# Altium schematic symbol library Alatyr-Schlib.SchLib: 33 symbols
Pins are listed as number, name and electrical type; pins without a type are passive.

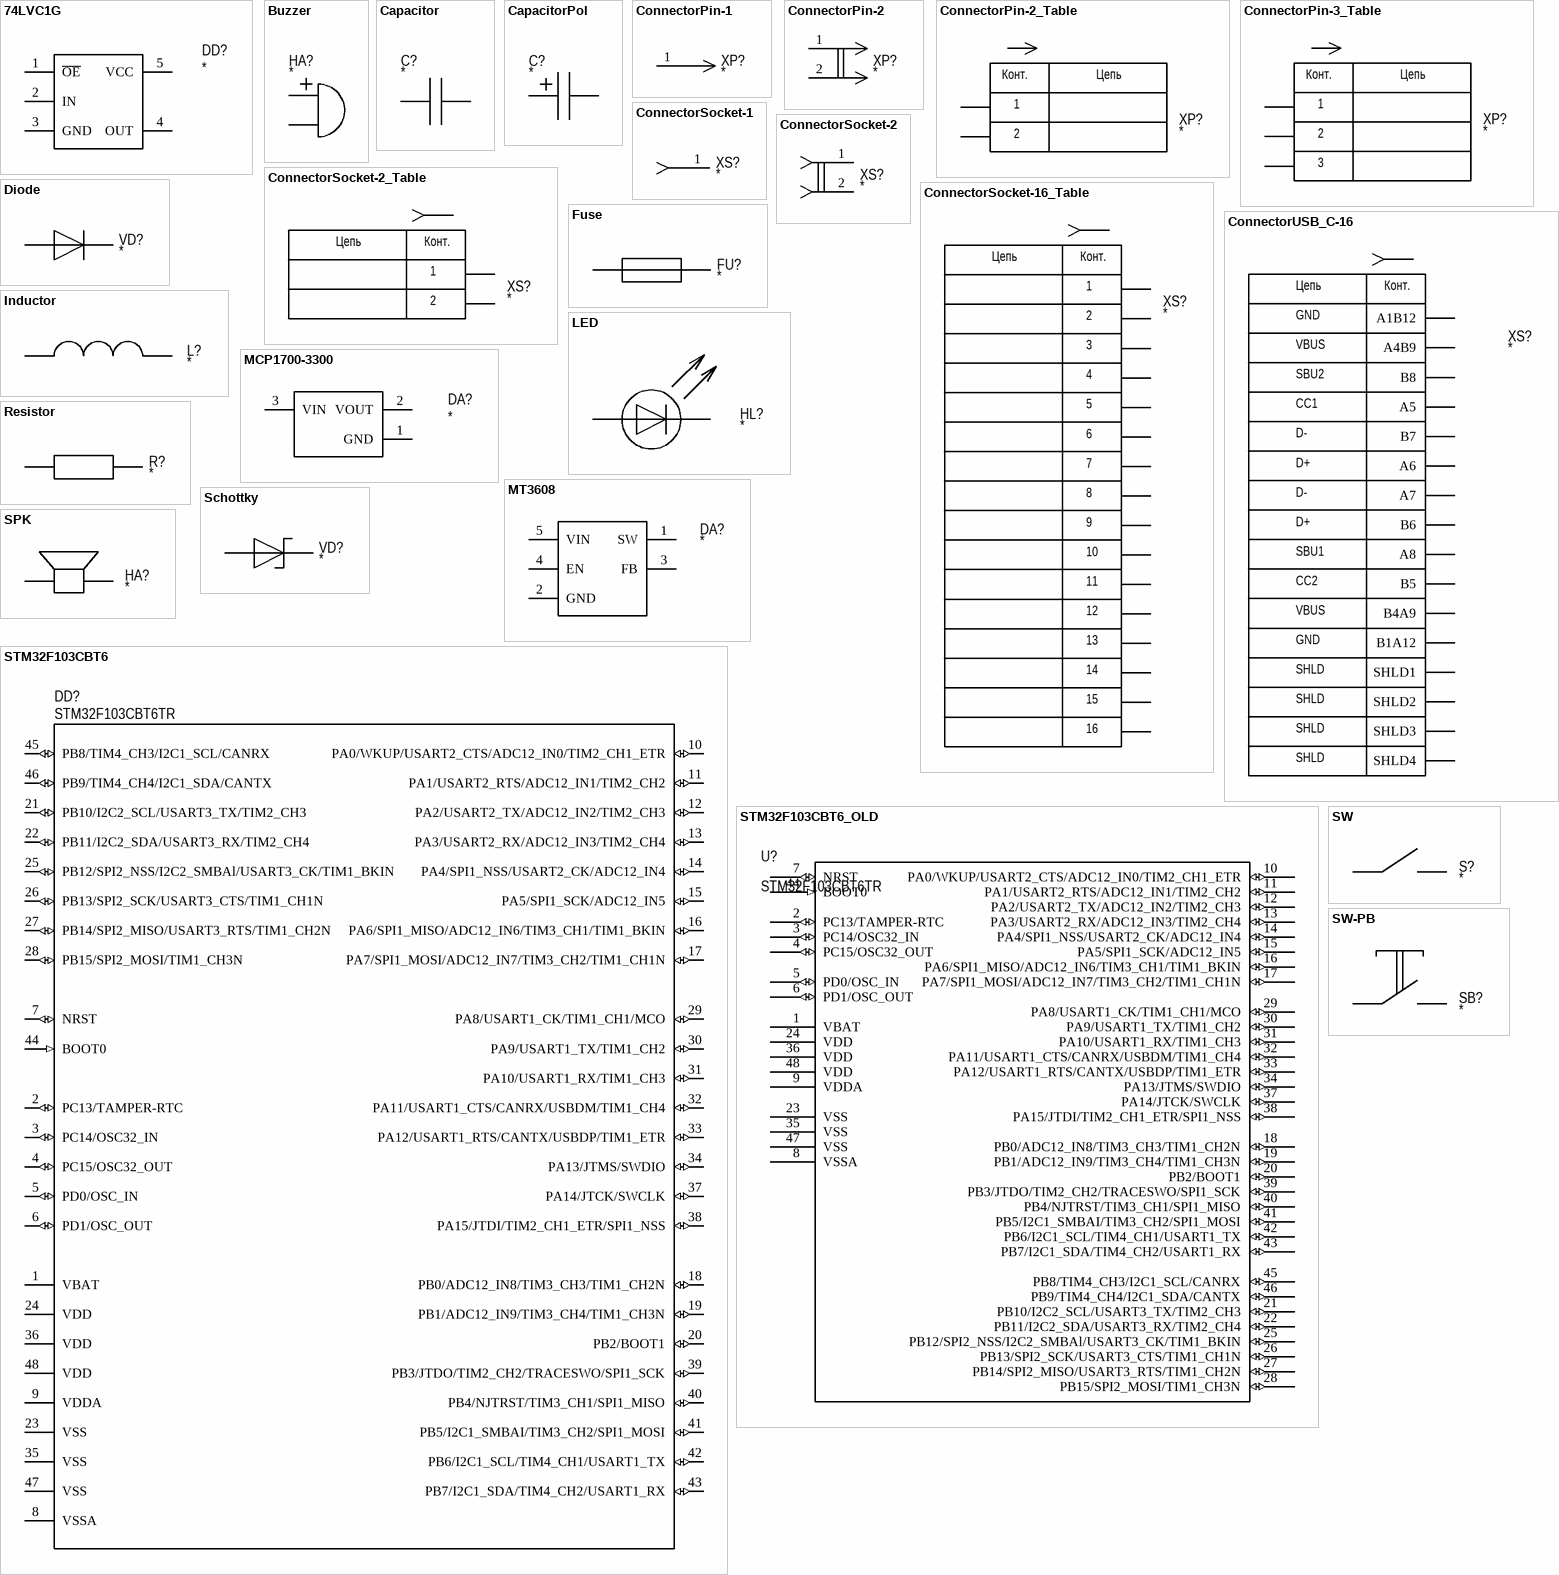
[diagram p0: symbols 74LVC1G to SW-PB]

## 74LVC1G
designator DD?
pins: 1 ~{OE} (power), 2 IN (power), 3 GND (power), 4 OUT (power), 5 VCC (power)

## Buzzer
designator HA?
pins: 1, 2

## Capacitor
designator C?
pins: 1, 2

## CapacitorPol
designator C?
pins: 1, 2

## ConnectorPin-1
designator XP?
pins: 1

## ConnectorPin-2
designator XP?
pins: 1, 2
2 alternate drawings of the same symbol

## ConnectorPin-2_Table
designator XP?
pins: 1, 2
2 alternate drawings of the same symbol
text: Конт.; Цепь

## ConnectorPin-3_Table
designator XP?
pins: 1, 2, 3
2 alternate drawings of the same symbol
text: Конт.; Цепь

## ConnectorSocket-1
designator XS?
pins: 1
2 alternate drawings of the same symbol

## ConnectorSocket-2
designator XS?
pins: 1, 2
2 alternate drawings of the same symbol

## ConnectorSocket-2_Table
designator XS?
pins: 1, 2
2 alternate drawings of the same symbol
text: Цепь; Конт.

## ConnectorSocket-16_Table
designator XS?
pins: 1, 2, 3, 4, 5, 6 62, 7, 8, 9, 10, 11, 12, 13, 14, 15, 16
2 alternate drawings of the same symbol
text: Цепь; Конт.

## ConnectorUSB_C-16
designator XS?
pins: A1B12 (power), A4B9 (power), A5, A6, A7, A8, B1A12 (power), B4A9 (power), B5, B6, B7, B8, SHLD1, SHLD2, SHLD3, SHLD4
2 alternate drawings of the same symbol
text: Цепь; Конт.; GND; VBUS; SBU2; CC1; D-; D+; SBU1; CC2; SHLD

## Diode
designator VD?
pins: 1 A, 2 C

## Fuse
designator FU?
pins: 1, 2

## Inductor
designator L?
pins: 1, 2
1 alternate drawing of the same symbol

## LED
designator HL?
pins: 1 A, 2 C
1 alternate drawing of the same symbol

## MCP1700-3300
designator DA?
pins: 1 GND (power), 2 VOUT (power), 3 VIN (power)

## MT3608
designator DA?
ComponentLink1Description: Datasheet; ComponentLink1URL: https://prom-electric.ru/media/MT3608.pdf?ysclid=ln8xejapsi722194160
pins: 1 SW (power), 2 GND (power), 3 FB (power), 4 EN (power), 5 VIN (power)

## Resistor
designator R?
pins: 1, 2

## Schottky
designator VD?
pins: 1 A, 2 C

## SPK
designator HA?
pins: 1, 2

## STM32F103CBT6
designator DD?, comment STM32F103CBT6TR
ARM Cortex-M3 32-bit MCU, 128 KB Flash, 20 KB Internal RAM, 37 I/Os, 48-pin LQFP, -40 to 85 degC, Tape and Reel; Supply Voltage(Vcc) min (V): 2; I/Os (High Current): 37; Operating Frequency(F) (Processor speed) (MHz): 72; A/D Converter: 2x12-bit (10 Channel); Internal RAM Size (kB): 20; FLASH Size (Prog) (kB): 128; ComponentLink1Description: Manufacturer URL; Packing: Tape and Reel; ComponentLink2Description: Datasheet; PartNumber: STM32F103CBT6TR; Core: ARM Cortex-M3; PackageReference: LQFP48; DatasheetVersion: Rev. 16; ComponentLink1URL: http://www.st.com/web/en/home.html; PackageDescription: 48-Pin Low Profile Quad Flat Package, 7 x 7 mm Body, 0.5 mm Pitch; ComponentLink3URL: http://www.st.com/st-web-ui/static/active/en/resource/technical/document/datasheet/DM00058181.pdf; ComponentLink2URL: http://www.st.com/st-web-ui/static/active/en/resource/technical/document/datasheet/CD00161566.pdf; PackageVersion: Rev. 6, 06/2013; Mounting Technology: Surface Mount; ComponentLink3Description: Package Specification
pins: 1 VBAT (power), 2 PC13/TAMPER-RTC (io) "PC13-TAMPER-RTC/PC13/TAMPER-RTC", 3 PC14/OSC32_IN (io) "PC14-OSC32_IN/PC14/OSC32_IN", 4 PC15/OSC32_OUT (io) "PC15-OSC32_OUT/PC15/OSC32_OUT", 5 PD0/OSC_IN (io), 6 PD1/OSC_OUT (io), 7 NRST (io), 8 VSSA (power), 9 VDDA (power), 10 PA0/WKUP/USART2_CTS/ADC12_IN0/TIM2_CH1_ETR (io) "PA0-WKUP/PA0/WKUP/USART2_CTS/ADC12_IN0/TIM2_CH1_ETR", 11 PA1/USART2_RTS/ADC12_IN1/TIM2_CH2 (io), 12 PA2/USART2_TX/ADC12_IN2/TIM2_CH3 (io), 13 PA3/USART2_RX/ADC12_IN3/TIM2_CH4 (io), 14 PA4/SPI1_NSS/USART2_CK/ADC12_IN4 (io), 15 PA5/SPI1_SCK/ADC12_IN5 (io), 16 PA6/SPI1_MISO/ADC12_IN6/TIM3_CH1/TIM1_BKIN (io), 17 PA7/SPI1_MOSI/ADC12_IN7/TIM3_CH2/TIM1_CH1N (io), 18 PB0/ADC12_IN8/TIM3_CH3/TIM1_CH2N (io), 19 PB1/ADC12_IN9/TIM3_CH4/TIM1_CH3N (io), 20 PB2/BOOT1 (io), 21 PB10/I2C2_SCL/USART3_TX/TIM2_CH3 (io), 22 PB11/I2C2_SDA/USART3_RX/TIM2_CH4 (io), 23 VSS (power) "VSS_1", 24 VDD (power) "VDD_1", 25 PB12/SPI2_NSS/I2C2_SMBAl/USART3_CK/TIM1_BKIN (io), 26 PB13/SPI2_SCK/USART3_CTS/TIM1_CH1N (io), 27 PB14/SPI2_MISO/USART3_RTS/TIM1_CH2N (io), 28 PB15/SPI2_MOSI/TIM1_CH3N (io), 29 PA8/USART1_CK/TIM1_CH1/MCO (io), 30 PA9/USART1_TX/TIM1_CH2 (io), 31 PA10/USART1_RX/TIM1_CH3 (io), 32 PA11/USART1_CTS/CANRX/USBDM/TIM1_CH4 (io), 33 PA12/USART1_RTS/CANTX/USBDP/TIM1_ETR (io), 34 PA13/JTMS/SWDIO (io), 35 VSS (power) "VSS_2", 36 VDD (power) "VDD_2", 37 PA14/JTCK/SWCLK (io), 38 PA15/JTDI/TIM2_CH1_ETR/SPI1_NSS (io), 39 PB3/JTDO/TIM2_CH2/TRACESWO/SPI1_SCK (io), 40 PB4/NJTRST/TIM3_CH1/SPI1_MISO (io), 41 PB5/I2C1_SMBAI/TIM3_CH2/SPI1_MOSI (io), 42 PB6/I2C1_SCL/TIM4_CH1/USART1_TX (io) "PB5/I2C1_SMBAI/TIM3_CH2/SPI1_MOSI", 43 PB7/I2C1_SDA/TIM4_CH2/USART1_RX (io), 44 BOOT0 (in), 45 PB8/TIM4_CH3/I2C1_SCL/CANRX (io), 46 PB9/TIM4_CH4/I2C1_SDA/CANTX (io), 47 VSS (power) "VSS_3", 48 VDD (power) "VDD_3"

## STM32F103CBT6_OLD
designator U?, comment STM32F103CBT6TR
ARM Cortex-M3 32-bit MCU, 128 KB Flash, 20 KB Internal RAM, 37 I/Os, 48-pin LQFP, -40 to 85 degC, Tape and Reel; Supply Voltage(Vcc) min (V): 2; I/Os (High Current): 37; Operating Frequency(F) (Processor speed) (MHz): 72; A/D Converter: 2x12-bit (10 Channel); Internal RAM Size (kB): 20; FLASH Size (Prog) (kB): 128; ComponentLink1Description: Manufacturer URL; Packing: Tape and Reel; ComponentLink2Description: Datasheet; PartNumber: STM32F103CBT6TR; Core: ARM Cortex-M3; PackageReference: LQFP48; DatasheetVersion: Rev. 16; ComponentLink1URL: http://www.st.com/web/en/home.html; PackageDescription: 48-Pin Low Profile Quad Flat Package, 7 x 7 mm Body, 0.5 mm Pitch; ComponentLink3URL: http://www.st.com/st-web-ui/static/active/en/resource/technical/document/datasheet/DM00058181.pdf; ComponentLink2URL: http://www.st.com/st-web-ui/static/active/en/resource/technical/document/datasheet/CD00161566.pdf; PackageVersion: Rev. 6, 06/2013; Mounting Technology: Surface Mount; ComponentLink3Description: Package Specification
pins: 1 VBAT (power), 2 PC13/TAMPER-RTC (io) "PC13-TAMPER-RTC/PC13/TAMPER-RTC", 3 PC14/OSC32_IN (io) "PC14-OSC32_IN/PC14/OSC32_IN", 4 PC15/OSC32_OUT (io) "PC15-OSC32_OUT/PC15/OSC32_OUT", 5 PD0/OSC_IN (io), 6 PD1/OSC_OUT (io), 7 NRST (io), 8 VSSA (power), 9 VDDA (power), 10 PA0/WKUP/USART2_CTS/ADC12_IN0/TIM2_CH1_ETR (io) "PA0-WKUP/PA0/WKUP/USART2_CTS/ADC12_IN0/TIM2_CH1_ETR", 11 PA1/USART2_RTS/ADC12_IN1/TIM2_CH2 (io), 12 PA2/USART2_TX/ADC12_IN2/TIM2_CH3 (io), 13 PA3/USART2_RX/ADC12_IN3/TIM2_CH4 (io), 14 PA4/SPI1_NSS/USART2_CK/ADC12_IN4 (io), 15 PA5/SPI1_SCK/ADC12_IN5 (io), 16 PA6/SPI1_MISO/ADC12_IN6/TIM3_CH1/TIM1_BKIN (io), 17 PA7/SPI1_MOSI/ADC12_IN7/TIM3_CH2/TIM1_CH1N (io), 18 PB0/ADC12_IN8/TIM3_CH3/TIM1_CH2N (io), 19 PB1/ADC12_IN9/TIM3_CH4/TIM1_CH3N (io), 20 PB2/BOOT1 (io), 21 PB10/I2C2_SCL/USART3_TX/TIM2_CH3 (io), 22 PB11/I2C2_SDA/USART3_RX/TIM2_CH4 (io), 23 VSS (power) "VSS_1", 24 VDD (power) "VDD_1", 25 PB12/SPI2_NSS/I2C2_SMBAl/USART3_CK/TIM1_BKIN (io), 26 PB13/SPI2_SCK/USART3_CTS/TIM1_CH1N (io), 27 PB14/SPI2_MISO/USART3_RTS/TIM1_CH2N (io), 28 PB15/SPI2_MOSI/TIM1_CH3N (io), 29 PA8/USART1_CK/TIM1_CH1/MCO (io), 30 PA9/USART1_TX/TIM1_CH2 (io), 31 PA10/USART1_RX/TIM1_CH3 (io), 32 PA11/USART1_CTS/CANRX/USBDM/TIM1_CH4 (io), 33 PA12/USART1_RTS/CANTX/USBDP/TIM1_ETR (io), 34 PA13/JTMS/SWDIO (io), 35 VSS (power) "VSS_2", 36 VDD (power) "VDD_2", 37 PA14/JTCK/SWCLK (io), 38 PA15/JTDI/TIM2_CH1_ETR/SPI1_NSS (io), 39 PB3/JTDO/TIM2_CH2/TRACESWO/SPI1_SCK (io), 40 PB4/NJTRST/TIM3_CH1/SPI1_MISO (io), 41 PB5/I2C1_SMBAI/TIM3_CH2/SPI1_MOSI (io), 42 PB6/I2C1_SCL/TIM4_CH1/USART1_TX (io) "PB5/I2C1_SMBAI/TIM3_CH2/SPI1_MOSI", 43 PB7/I2C1_SDA/TIM4_CH2/USART1_RX (io), 44 BOOT0 (in), 45 PB8/TIM4_CH3/I2C1_SCL/CANRX (io), 46 PB9/TIM4_CH4/I2C1_SDA/CANTX (io), 47 VSS (power) "VSS_3", 48 VDD (power) "VDD_3"

## SW
designator S?
pins: 1, 2

## SW-PB
designator SB?
pins: 1, 2

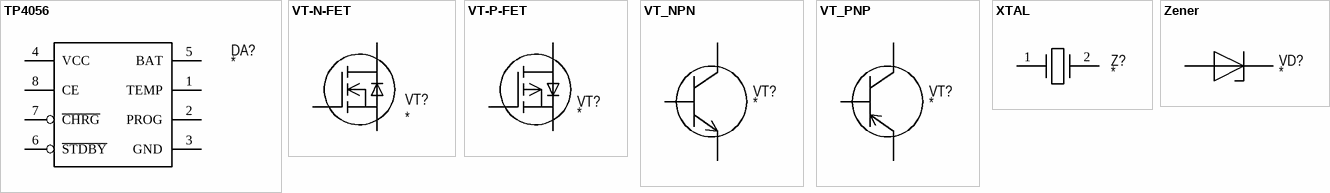
[diagram p1: symbols TP4056 to Zener]

## TP4056
designator DA?
1A Standalone Linear Li-lon Battery Charger with Thermal / Regulation; ComponentLink1Description: Datasheet; ComponentLink1URL: https://robot-kit.ru/wa-data/public/blog/download/TP4056.pdf?ysclid=ln8x1l4v3j808138171
pins: 1 TEMP (power), 2 PROG (power), 3 GND (power), 4 VCC (power), 5 BAT (power), 6 ~{STDBY} (power), 7 ~{CHRG} (power), 8 CE (power)

## VT-N-FET
designator VT?
pins: D, G, S

## VT-P-FET
designator VT?
pins: D, G, S

## VT_NPN
designator VT?
pins: B, C, E

## VT_PNP
designator VT?
pins: B, C, E

## XTAL
designator Z?
pins: 1 OSC1, 2 OSC2

## Zener
designator VD?
pins: 1 A, 2 C